# EAGLE library part VNH7070ASTR (library VNH7070ASTR)
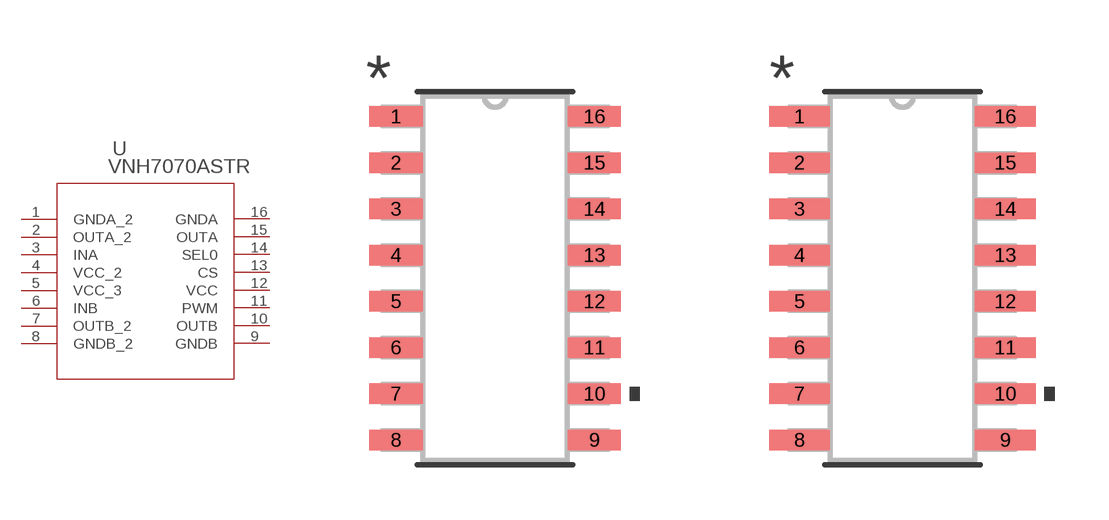
[diagram p0: symbol with the pads of SO_0ASTR_STM; footprints SO_0ASTR_STM, SO_0ASTR_STM-M]

Designator prefix U

## VNH7070ASTR (COPYRIGHT: Copyright (C) 2024 Ultra Librarian. All rights reserved.; MANUFACTURER_PART_NUMBER: VNH7070ASTR; MFR_NAME: STMicroelectronics)  [SO_0ASTR_STM]
1  GNDA_2  pas
2  OUTA_2  out
3  INA  in
4  VCC_2  pwr
5  VCC_3  pwr
6  INB  in
7  OUTB_2  out
8  GNDB_2  pas
9  GNDB  pas
10  OUTB  out
11  PWM  pas
12  VCC  pwr
13  CS  pas
14  SEL0  pas
15  OUTA  out
16  GNDA  pas

## VNH7070ASTRSO_0ASTR_STM-M (COPYRIGHT: Copyright (C) 2024 Ultra Librarian. All rights reserved.; MANUFACTURER_PART_NUMBER: VNH7070ASTR; MFR_NAME: STMicroelectronics)  [SO_0ASTR_STM-M]
Pads as for SO_0ASTR_STM

## VNH7070ASTRSO_0ASTR_STM-L (COPYRIGHT: Copyright (C) 2024 Ultra Librarian. All rights reserved.; MANUFACTURER_PART_NUMBER: VNH7070ASTR; MFR_NAME: STMicroelectronics)  [SO_0ASTR_STM-L]
Pads as for SO_0ASTR_STM

## Footprint SO_0ASTR_STM (pad centres in mm)
smd 1.46 x 0.559: 1 -2.724,4.445; 2 -2.724,3.175; 3 -2.724,1.905; 4 -2.724,0.635; 5 -2.724,-0.635; 6 -2.724,-1.905; 7 -2.724,-3.175; 8 -2.724,-4.445; 9 2.724,-4.445; 10 2.724,-3.175; 11 2.724,-1.905; 12 2.724,-0.635; 13 2.724,0.635; 14 2.724,1.905; 15 2.724,3.175; 16 2.724,4.445

## Footprint SO_0ASTR_STM-M (pad centres in mm)
smd 1.664 x 0.559: 1 -2.826,4.445; 2 -2.826,3.175; 3 -2.826,1.905; 4 -2.826,0.635; 5 -2.826,-0.635; 6 -2.826,-1.905; 7 -2.826,-3.175; 8 -2.826,-4.445; 9 2.826,-4.445; 10 2.826,-3.175; 11 2.826,-1.905; 12 2.826,-0.635; 13 2.826,0.635; 14 2.826,1.905; 15 2.826,3.175; 16 2.826,4.445

## Footprint SO_0ASTR_STM-L (pad centres in mm)
smd 1.257 x 0.508: 1 -2.623,4.445; 2 -2.623,3.175; 3 -2.623,1.905; 4 -2.623,0.635; 5 -2.623,-0.635; 6 -2.623,-1.905; 7 -2.623,-3.175; 8 -2.623,-4.445; 9 2.623,-4.445; 10 2.623,-3.175; 11 2.623,-1.905; 12 2.623,-0.635; 13 2.623,0.635; 14 2.623,1.905; 15 2.623,3.175; 16 2.623,4.445